# EAGLE library part THAT1646 (library THAT1646)
THAT 1646 Balanced Line Driver (DIP) Datasheet: http://www.thatcorp.com/datashts/THAT_1606-1646_Datasheet.pdf
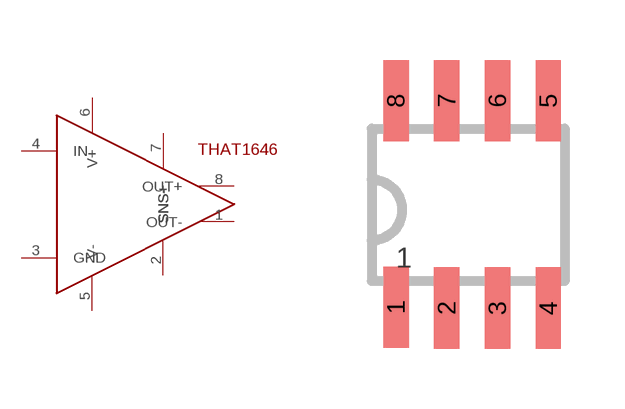
[diagram p0: symbol with the pads of THAT1646; footprint THAT1646]

Designator prefix -

## THAT1646  [THAT1646]
1  OUT-  out
2  SNS-
3  GND
4  IN  in
5  V-  pwr
6  V+  pwr
7  SNS+
8  OUT+  out

## Footprint THAT1646 (pad centres in mm)
THAT 1646 Balanced Line Driver (DIP) Datasheet: http://www.thatcorp.com/datashts/THAT_1606-1646_Datasheet.pdf
smd 0.635 x 2.032: 1 0.61,-0.652; 2 1.88,-0.676; 3 3.15,-0.676; 4 4.42,-0.676; 5 4.42,4.511; 6 3.15,4.511; 7 1.88,4.511; 8 0.61,4.511